# Altium schematic symbol library TPD4S012DRYR.Schlib: 1 symbol
Pins are listed as number, name and electrical type; pins without a type are passive.

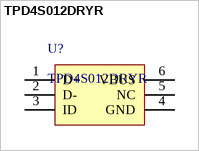
[diagram p0: symbol TPD4S012DRYR]

## TPD4S012DRYR
designator U?
- Clamp 3A (8/20µs) Ipp Tvs Diode Surface Mount 6-SON (1.45x1)
pins: 1 D+, 2 D-, 3 ID, 4 GND, 5 NC, 6 VBUS